# Altium footprint library SOP.PcbLib: 64 footprints (part 4 of 4)
Each footprint in its own frame and in the unit in brackets; x right, y up, seen from the top. Pads: shape width x height; smd on the part's side, far side on the other; paste and mask are expansions set on the pad; w line width, h text height; cw(c..) or ccw(c..) is an arc to the next point about the centre after c.
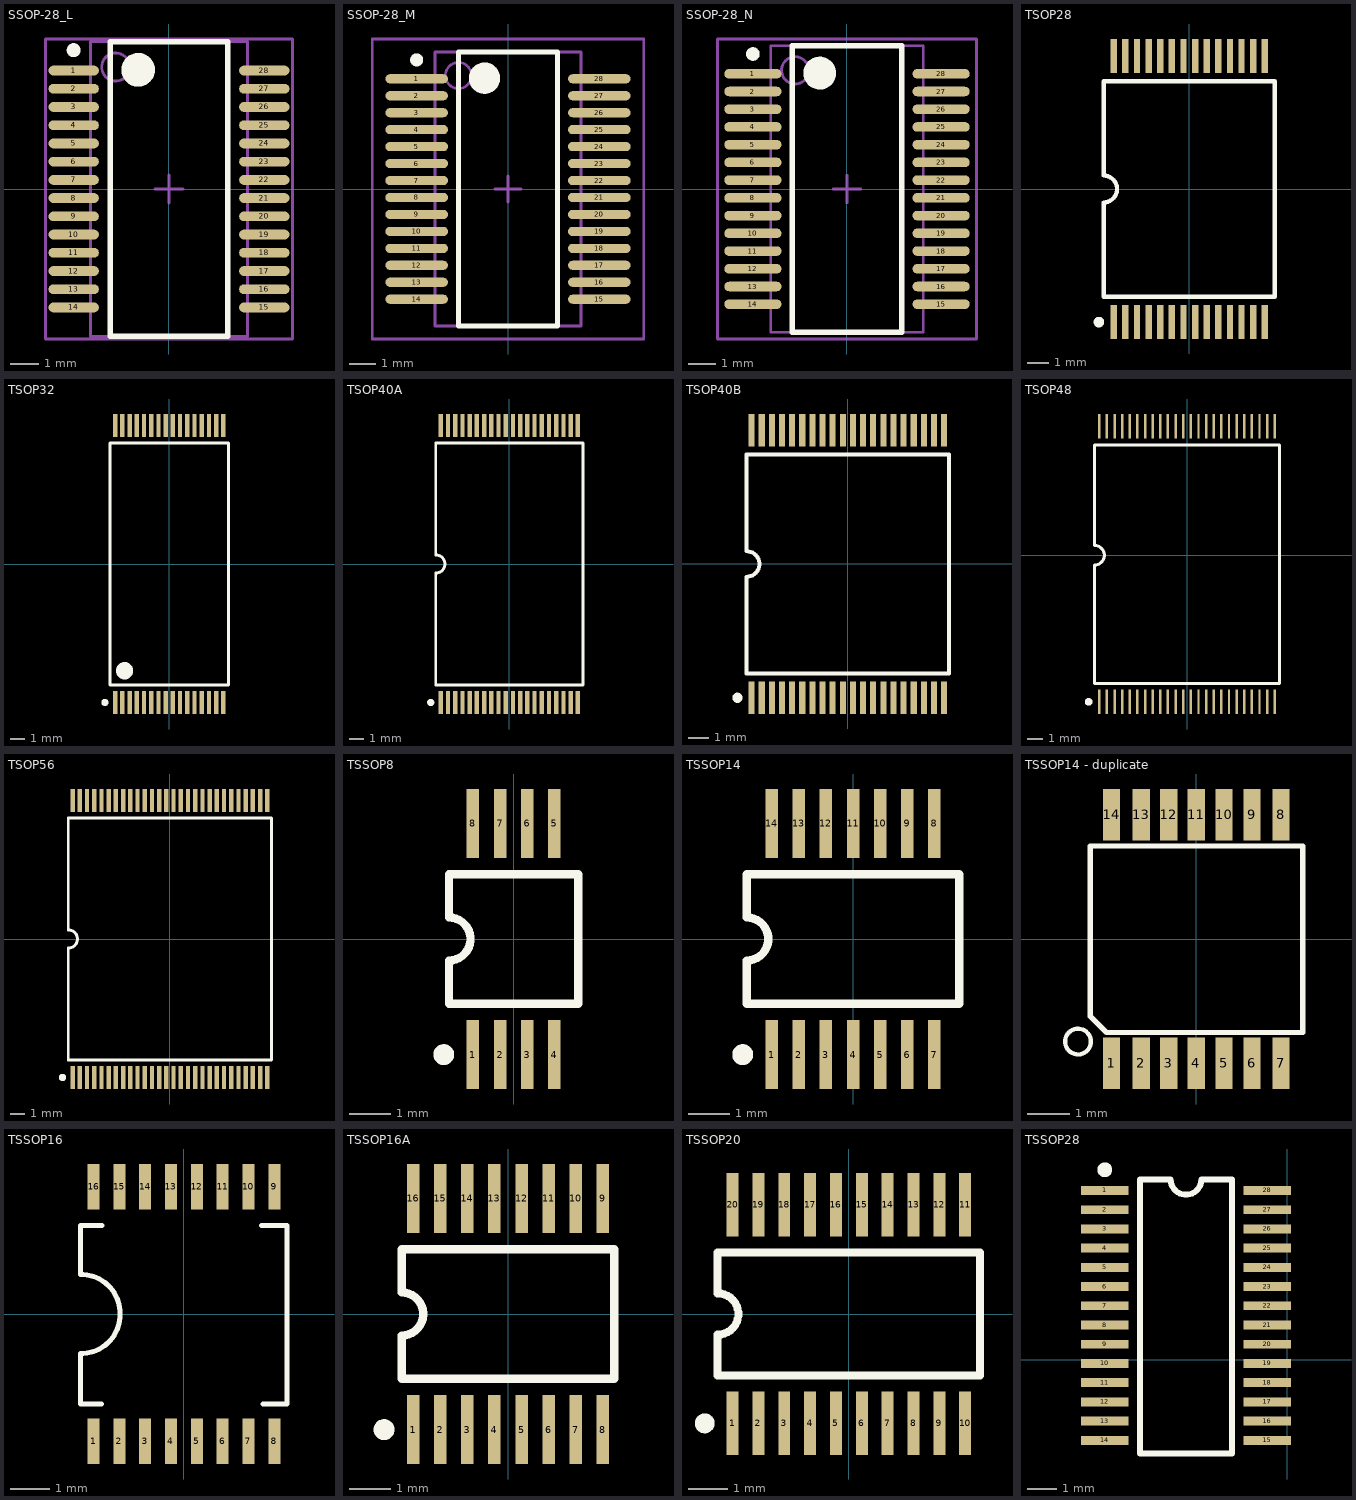
[diagram p3: the footprints below, top view; thin cyan lines are the x and y axes]

## SSOP-28_L [mm] "SOP, 28-Leads, Body 10.2x5.3mm, Pitch 0.65mm, IPC High Density"
height 2
pads (28):
  oval 1.8x0.35 smd: 1(-3.4,4.225) 2(-3.4,3.575) 3(-3.4,2.925) 4(-3.4,2.275) 5(-3.4,1.625) 6(-3.4,0.975) 7(-3.4,0.325) 8(-3.4,-0.325) 9(-3.4,-0.975) 10(-3.4,-1.625) 11(-3.4,-2.275) 12(-3.4,-2.925) 13(-3.4,-3.575) 14(-3.4,-4.225) 15(3.4,-4.225) 16(3.4,-3.575) 17(3.4,-2.925) 18(3.4,-2.275) 19(3.4,-1.625) 20(3.4,-0.975) 21(3.4,-0.325) 22(3.4,0.325) 23(3.4,0.975) 24(3.4,1.625) 25(3.4,2.275) 26(3.4,2.925) 27(3.4,3.575) 28(3.4,4.225)
Top Overlay:
  circle w0.6: c-1.1,4.25 r0.3
  circle w0.25: c-3.4,4.95 r0.125
  lines w0.2: -2.1,-5.25 2.1,-5.25 2.1,5.25 -2.1,5.25 -2.1,-5.25
Mechanical 13:
  circle w0.1: c-1.9,4.35 r0.5
  lines w0.1: -2.8,-5.25 2.8,-5.25 2.8,5.25 -2.8,5.25 -2.8,-5.25
Mechanical 15:
  lines w0.1: -0.5,0 0.5,0 ; 0,-0.5 0,0.5 ; -4.4,-5.35 4.4,-5.35 4.4,5.35 -4.4,5.35 -4.4,-5.35
3D body: height 2, standoff 0.05, extent -2.8,-5.25 2.8,5.25

## SSOP-28_M [mm] "SOP, 28-Leads, Body 10.2x5.3mm, Pitch 0.65mm, IPC Low Density"
height 2
pads (28):
  oval 2.4x0.35 smd: 1(-3.5,4.225) 2(-3.5,3.575) 3(-3.5,2.925) 4(-3.5,2.275) 5(-3.5,1.625) 6(-3.5,0.975) 7(-3.5,0.325) 8(-3.5,-0.325) 9(-3.5,-0.975) 10(-3.5,-1.625) 11(-3.5,-2.275) 12(-3.5,-2.925) 13(-3.5,-3.575) 14(-3.5,-4.225) 15(3.5,-4.225) 16(3.5,-3.575) 17(3.5,-2.925) 18(3.5,-2.275) 19(3.5,-1.625) 20(3.5,-0.975) 21(3.5,-0.325) 22(3.5,0.325) 23(3.5,0.975) 24(3.5,1.625) 25(3.5,2.275) 26(3.5,2.925) 27(3.5,3.575) 28(3.5,4.225)
Top Overlay:
  circle w0.6: c-0.9,4.25 r0.3
  circle w0.25: c-3.5,4.95 r0.125
  lines w0.2: -1.9,-5.25 1.9,-5.25 1.9,5.25 -1.9,5.25 -1.9,-5.25
Mechanical 13:
  circle w0.1: c-1.9,4.35 r0.5
  lines w0.1: -2.8,-5.25 2.8,-5.25 2.8,5.25 -2.8,5.25 -2.8,-5.25
Mechanical 15:
  lines w0.1: -0.5,0 0.5,0 ; 0,-0.5 0,0.5 ; -5.2,-5.75 5.2,-5.75 5.2,5.75 -5.2,5.75 -5.2,-5.75
3D body: height 2, standoff 0.05, extent -2.8,-5.25 2.8,5.25

## SSOP-28_N [mm] "SOP, 28-Leads, Body 10.2x5.3mm, Pitch 0.65mm, IPC Medium Density"
height 2
pads (28):
  oval 2.1x0.35 smd: 1(-3.45,4.225) 2(-3.45,3.575) 3(-3.45,2.925) 4(-3.45,2.275) 5(-3.45,1.625) 6(-3.45,0.975) 7(-3.45,0.325) 8(-3.45,-0.325) 9(-3.45,-0.975) 10(-3.45,-1.625) 11(-3.45,-2.275) 12(-3.45,-2.925) 13(-3.45,-3.575) 14(-3.45,-4.225) 15(3.45,-4.225) 16(3.45,-3.575) 17(3.45,-2.925) 18(3.45,-2.275) 19(3.45,-1.625) 20(3.45,-0.975) 21(3.45,-0.325) 22(3.45,0.325) 23(3.45,0.975) 24(3.45,1.625) 25(3.45,2.275) 26(3.45,2.925) 27(3.45,3.575) 28(3.45,4.225)
Top Overlay:
  circle w0.6: c-1,4.25 r0.3
  circle w0.25: c-3.45,4.95 r0.125
  lines w0.2: -2,-5.25 2,-5.25 2,5.25 -2,5.25 -2,-5.25
Mechanical 13:
  circle w0.1: c-1.9,4.35 r0.5
  lines w0.1: -2.8,-5.25 2.8,-5.25 2.8,5.25 -2.8,5.25 -2.8,-5.25
Mechanical 15:
  lines w0.1: -0.5,0 0.5,0 ; 0,-0.5 0,0.5 ; -4.75,-5.5 4.75,-5.5 4.75,5.5 -4.75,5.5 -4.75,-5.5
3D body: height 2, standoff 0.05, extent -2.8,-5.25 2.8,5.25

## TSOP28 [mm] "Shrink Small Outline, Plastic, Thin; 28 Leads; Body Width 11.8 mm; Pitch 0.55 mm"
height 1.2
pads (28):
  rect 0.3x1.6 smd: 1(0.275,-6.3) 2(0.825,-6.3) 3(1.375,-6.3) 4(1.925,-6.3) 5(2.475,-6.3) 6(3.025,-6.3) 7(3.575,-6.3) 8(3.575,6.3) 9(3.025,6.3) 10(2.475,6.3) 11(1.925,6.3) 12(1.375,6.3) 13(0.825,6.3) 14(0.275,6.3) 15(-0.275,6.3) 16(-0.825,6.3) 17(-1.375,6.3) 18(-1.925,6.3) 19(-2.475,6.3) 20(-3.025,6.3) 21(-3.575,6.3) 22(-3.575,-6.3) 23(-3.025,-6.3) 24(-2.475,-6.3) 25(-1.925,-6.3) 26(-1.375,-6.3) 27(-0.825,-6.3) 28(-0.275,-6.3)
Top Overlay:
  circle w0.25: c-4.275,-6.3 r0.125
  lines w0.2: -4.05,-5.1 4.05,-5.1 4.05,5.1 -4.05,5.1 -4.05,0.635 cw(c-4.05,0) -4.05,-0.635 -4.05,-5.1

## TSOP32 [mm] "Shrink Small Outline, Plastic, Thin; 32 Leads; Body Width 18.4 mm; Pitch 0.5 mm"
height 1.2
pads (32):
  rect 0.3x1.6 smd: 1(-3.75,-9.6) 2(-3.25,-9.6) 3(-2.75,-9.6) 4(-2.25,-9.6) 5(-1.75,-9.6) 6(-1.25,-9.6) 7(-0.75,-9.6) 8(-0.25,-9.6) 9(0.25,-9.6) 10(0.75,-9.6) 11(1.25,-9.6) 12(1.75,-9.6) 13(2.25,-9.6) 14(2.75,-9.6) 15(3.25,-9.6) 16(3.75,-9.6) 17(3.75,9.6) 18(3.25,9.6) 19(2.75,9.6) 20(2.25,9.6) 21(1.75,9.6) 22(1.25,9.6) 23(0.75,9.6) 24(0.25,9.6) 25(-0.25,9.6) 26(-0.75,9.6) 27(-1.25,9.6) 28(-1.75,9.6) 29(-2.25,9.6) 30(-2.75,9.6) 31(-3.25,9.6) 32(-3.75,9.6)
Top Overlay:
  circle w0.6: c-3.1,-7.4 r0.3
  circle w0.25: c-4.46,-9.6 r0.125
  lines w0.2: -4.1,-8.4 4.1,-8.4 4.1,8.4 -4.1,8.4 -4.1,-0.635 -4.1,-8.4

## TSOP40A [mm] "Shrink Small Outline, Plastic, Thin; 40 Leads; Body Width 18.4 mm; Pitch 0.5 mm"
height 1.2
pads (40):
  rect 0.3x1.6 smd: 1(-4.75,-9.6) 2(-4.25,-9.6) 3(-3.75,-9.6) 4(-3.25,-9.6) 5(-2.75,-9.6) 6(-2.25,-9.6) 7(-1.75,-9.6) 8(-1.25,-9.6) 9(-0.75,-9.6) 10(-0.25,-9.6) 11(0.25,-9.6) 12(0.75,-9.6) 13(1.25,-9.6) 14(1.75,-9.6) 15(2.25,-9.6) 16(2.75,-9.6) 17(3.25,-9.6) 18(3.75,-9.6) 19(4.25,-9.6) 20(4.75,-9.6) 21(4.75,9.6) 22(4.25,9.6) 23(3.75,9.6) 24(3.25,9.6) 25(2.75,9.6) 26(2.25,9.6) 27(1.75,9.6) 28(1.25,9.6) 29(0.75,9.6) 30(0.25,9.6) 31(-0.25,9.6) 32(-0.75,9.6) 33(-1.25,9.6) 34(-1.75,9.6) 35(-2.25,9.6) 36(-2.75,9.6) 37(-3.25,9.6) 38(-3.75,9.6) 39(-4.25,9.6) 40(-4.75,9.6)
Top Overlay:
  circle w0.25: c-5.45,-9.6 r0.125
  lines w0.2: -5.1,-8.4 5.1,-8.4 5.1,8.4 -5.1,8.4 -5.1,0.635 cw(c-5.1,0) -5.1,-0.635 -5.1,-8.4

## TSOP40B [mm] "Shrink Small Outline, Plastic, Thin; 40 Leads; Body Width 12.4 mm; Pitch 0.5 mm"
height 1.2
pads (40):
  rect 0.3x1.6 smd: 1(-4.75,-6.6) 2(-4.25,-6.6) 3(-3.75,-6.6) 4(-3.25,-6.6) 5(-2.75,-6.6) 6(-2.25,-6.6) 7(-1.75,-6.6) 8(-1.25,-6.6) 9(-0.75,-6.6) 10(-0.25,-6.6) 11(0.25,-6.6) 12(0.75,-6.6) 13(1.25,-6.6) 14(1.75,-6.6) 15(2.25,-6.6) 16(2.75,-6.6) 17(3.25,-6.6) 18(3.75,-6.6) 19(4.25,-6.6) 20(4.75,-6.6) 21(4.75,6.6) 22(4.25,6.6) 23(3.75,6.6) 24(3.25,6.6) 25(2.75,6.6) 26(2.25,6.6) 27(1.75,6.6) 28(1.25,6.6) 29(0.75,6.6) 30(0.25,6.6) 31(-0.25,6.6) 32(-0.75,6.6) 33(-1.25,6.6) 34(-1.75,6.6) 35(-2.25,6.6) 36(-2.75,6.6) 37(-3.25,6.6) 38(-3.75,6.6) 39(-4.25,6.6) 40(-4.75,6.6)
Top Overlay:
  circle w0.25: c-5.45,-6.6 r0.125
  lines w0.2: -5,-5.4 -5,-0.635 ccw(c-5,0) -5,0.635 -5,5.4 5,5.4 5,-5.4 -5,-5.4

## TSOP48 [mm] "Shrink Small Outline, Plastic, Thin; 48 Leads; Body Width 18.4 mm; Pitch 0.5 mm"
height 1.2
pads (48):
  rect 0.16x1.6 smd: 1(-5.75,-9.6) 2(-5.25,-9.6) 3(-4.75,-9.6) 4(-4.25,-9.6) 5(-3.75,-9.6) 6(-3.25,-9.6) 7(-2.75,-9.6) 8(-2.25,-9.6) 9(-1.75,-9.6) 10(-1.25,-9.6) 11(-0.75,-9.6) 12(-0.25,-9.6) 13(0.25,-9.6) 14(0.75,-9.6) 15(1.25,-9.6) 16(1.75,-9.6) 17(2.25,-9.6) 18(2.75,-9.6) 19(3.25,-9.6) 20(3.75,-9.6) 21(4.25,-9.6) 22(4.75,-9.6) 23(5.25,-9.6) 24(5.75,-9.6) 25(5.75,8.457) 26(5.25,8.457) 27(4.75,8.457) 28(4.25,8.457) 29(3.75,8.457) 30(3.25,8.457) 31(2.75,8.457) 32(2.25,8.457) 33(1.75,8.457) 34(1.25,8.457) 35(0.75,8.457) 36(0.25,8.457) 37(-0.25,8.457) 38(-0.75,8.457) 39(-1.25,8.457) 40(-1.75,8.457) 41(-2.25,8.457) 42(-2.75,8.457) 43(-3.25,8.457) 44(-3.75,8.457) 45(-4.25,8.457) 46(-4.75,8.457) 47(-5.25,8.457) 48(-5.75,8.457)
Top Overlay:
  circle w0.25: c-6.45,-9.6 r0.125
  lines w0.2: -6.05,-8.4 -6.05,-0.635 ccw(c-6.05,0) -6.05,0.635 -6.05,7.239 6.05,7.239 6.05,-8.4 -6.05,-8.4

## TSOP56 [mm] "Shrink Small Outline, Plastic, Thin; 56 Leads; Body Width 18.4 mm; Pitch 0.5 mm"
height 1.2
pads (56):
  rect 0.3x1.6 smd: 1(-6.75,-9.6) 2(-6.25,-9.6) 3(-5.75,-9.6) 4(-5.25,-9.6) 5(-4.75,-9.6) 6(-4.25,-9.6) 7(-3.75,-9.6) 8(-3.25,-9.6) 9(-2.75,-9.6) 10(-2.25,-9.6) 11(-1.75,-9.6) 12(-1.25,-9.6) 13(-0.75,-9.6) 14(-0.25,-9.6) 15(0.25,-9.6) 16(0.75,-9.6) 17(1.25,-9.6) 18(1.75,-9.6) 19(2.25,-9.6) 20(2.75,-9.6) 21(3.25,-9.6) 22(3.75,-9.6) 23(4.25,-9.6) 24(4.75,-9.6) 25(5.25,-9.6) 26(5.75,-9.6) 27(6.25,-9.6) 28(6.75,-9.6) 29(6.75,9.6) 30(6.25,9.6) 31(5.75,9.6) 32(5.25,9.6) 33(4.75,9.6) 34(4.25,9.6) 35(3.75,9.6) 36(3.25,9.6) 37(2.75,9.6) 38(2.25,9.6) 39(1.75,9.6) 40(1.25,9.6) 41(0.75,9.6) 42(0.25,9.6) 43(-0.25,9.6) 44(-0.75,9.6) 45(-1.25,9.6) 46(-1.75,9.6) 47(-2.25,9.6) 48(-2.75,9.6) 49(-3.25,9.6) 50(-3.75,9.6) 51(-4.25,9.6) 52(-4.75,9.6) 53(-5.25,9.6) 54(-5.75,9.6) 55(-6.25,9.6) 56(-6.75,9.6)
Top Overlay:
  circle w0.25: c-7.45,-9.6 r0.125
  lines w0.2: -7.05,-8.4 -7.05,-0.635 ccw(c-7.05,0) -7.05,0.635 -7.05,8.4 7.05,8.4 7.05,-8.4 -7.05,-8.4

## TSSOP8 [mm] "Shrink Small Outline, Plastic, Thin; 8 Leads; Body Width 4.4 mm; Pitch 0.65 mm"
height 1.1
pads (8):
  rect 0.3x1.65 smd: 1(-0.975,-2.775) 2(-0.325,-2.775) 3(0.325,-2.775) 4(0.975,-2.775) 5(0.975,2.775) 6(0.325,2.775) 7(-0.325,2.775) 8(-0.975,2.775)
Top Overlay:
  circle w0.25: c-1.675,-2.775 r0.125
  lines w0.2: -1.55,-1.55 1.55,-1.55 1.55,1.55 -1.55,1.55 -1.55,0.517 cw(c-1.55,0) -1.55,-0.517 -1.55,-1.55

## TSSOP14 [mm] "Shrink Small Outline; 14 Leads; Body Width 4.4 mm; Pitch 0.65 mm"
height 1.1
pads (14):
  rect 0.3x1.65 smd: 1(-1.95,-2.775) 2(-1.3,-2.775) 3(-0.65,-2.775) 4(0,-2.775) 5(0.65,-2.775) 6(1.3,-2.775) 7(1.95,-2.775) 8(1.95,2.775) 9(1.3,2.775) 10(0.65,2.775) 11(0,2.775) 12(-0.65,2.775) 13(-1.3,2.775) 14(-1.95,2.775)
Top Overlay:
  circle w0.25: c-2.65,-2.775 r0.125
  lines w0.2: -2.55,-1.55 -2.55,-0.517 ccw(c-2.55,0) -2.55,0.517 -2.55,1.55 2.55,1.55 2.55,-1.55 -2.55,-1.55

## TSSOP14 - duplicate [mil] "TSSOP14"
pads (14):
  rect 16x48 smd: 1(-78.74,-115.16) 2(-51.18,-115.16) 3(-25.59,-115.16) 4(0,-115.16) 5(26,-115.16) 6(52,-115.16) 7(79,-115.16) 8(79,116) 9(52,116) 10(26,116) 11(0,116) 12(-25.59,116) 13(-51.18,116) 14(-78.74,116)
Top Overlay:
  circle w4: c-110,-95 r12
  lines w5: -98.43,-71.61 -83.43,-86.61 99,-86.61 99,87 -98.43,87 -98.43,-71.61
Mechanical 2:
Mechanical 4:

## TSSOP16 [mm]
pads (16):
  rect 0.3x1.15 smd: 1(-2.275,-3.2) 2(-1.625,-3.2) 3(-0.975,-3.2) 4(-0.325,-3.2) 5(0.325,-3.2) 6(0.975,-3.2) 7(1.625,-3.2) 8(2.275,-3.2) 9(2.275,3.2) 10(1.625,3.2) 11(0.975,3.2) 12(0.325,3.2) 13(-0.325,3.2) 14(-0.975,3.2) 15(-1.625,3.2) 16(-2.275,3.2)
Top Overlay:
  lines w0.127: -2.069,-2.263 -2.6,-2.263 -2.6,-1 ccw(c-2.6,0) -2.6,1 -2.6,2.223 -2.059,2.223 ; 1.954,2.223 2.6,2.223 2.6,-2.263 1.995,-2.263

## TSSOP16A [mm] "Shrink Small Outline; 16 Leads; Body Width 4.4 mm; Pitch 0.65 mm"
height 1.1
pads (16):
  rect 0.3x1.65 smd: 1(-2.275,-2.775) 2(-1.625,-2.775) 3(-0.975,-2.775) 4(-0.325,-2.775) 5(0.325,-2.775) 6(0.975,-2.775) 7(1.625,-2.775) 8(2.275,-2.775) 9(2.275,2.775) 10(1.625,2.775) 11(0.975,2.775) 12(0.325,2.775) 13(-0.325,2.775) 14(-0.975,2.775) 15(-1.625,2.775) 16(-2.275,2.775)
Top Overlay:
  circle w0.25: c-2.975,-2.775 r0.125
  lines w0.2: -2.55,-1.55 -2.55,-0.517 ccw(c-2.55,0) -2.55,0.517 -2.55,1.55 2.55,1.55 2.55,-1.55 -2.55,-1.55

## TSSOP20 [mm] "Shrink Small Outline; 20 Leads; Body Width 4.4 mm; Pitch 0.65 mm"
height 1.1
pads (20):
  rect 0.3x1.6 smd: 1(-2.925,-2.75) 2(-2.275,-2.75) 3(-1.625,-2.75) 4(-0.975,-2.75) 5(-0.325,-2.75) 6(0.325,-2.75) 7(0.975,-2.75) 8(1.625,-2.75) 9(2.275,-2.75) 10(2.925,-2.75) 11(2.925,2.75) 12(2.275,2.75) 13(1.625,2.75) 14(0.975,2.75) 15(0.325,2.75) 16(-0.325,2.75) 17(-0.975,2.75) 18(-1.625,2.75) 19(-2.275,2.75) 20(-2.925,2.75)
Top Overlay:
  circle w0.25: c-3.625,-2.75 r0.125
  lines w0.2: -3.3,-1.55 3.3,-1.55 3.3,1.55 -3.3,1.55 -3.3,0.52 cw(c-3.3,0) -3.3,-0.52 -3.3,-1.55

## TSSOP28 [mm] "Shrink Small Outline; 20 Leads; Body Width 4.4 mm; Pitch 0.65 mm"
height 1.1
pads (28):
  rect 1.6x0.3 smd: 1(-6.179,5.719) 2(-6.179,5.069) 3(-6.179,4.419) 4(-6.179,3.769) 5(-6.179,3.119) 6(-6.179,2.469) 7(-6.179,1.819) 8(-6.179,1.169) 9(-6.179,0.519) 10(-6.179,-0.131) 11(-6.179,-0.781) 12(-6.179,-1.431) 13(-6.179,-2.081) 14(-6.179,-2.731) 15(-0.679,-2.731) 16(-0.679,-2.081) 17(-0.679,-1.431) 18(-0.679,-0.781) 19(-0.679,-0.131) 20(-0.679,0.519) 21(-0.679,1.169) 22(-0.679,1.819) 23(-0.679,2.469) 24(-0.679,3.119) 25(-0.679,3.769) 26(-0.679,4.419) 27(-0.679,5.069) 28(-0.679,5.719)
Top Overlay:
  circle w0.25: c-6.179,6.419 r0.125
  lines w0.2: -4.979,-3.175 -4.979,6.094 -3.949,6.094 ccw(c-3.429,6.094) -2.909,6.094 -1.879,6.094 -1.879,-3.175 -4.979,-3.175
3D body: height 2.65, standoff 0, extent -5.715,-3.175 -1.143,6.096